# Altium schematic symbol library Bosch.SchLib: 2 symbols
Pins are listed as number, name and electrical type; pins without a type are passive.

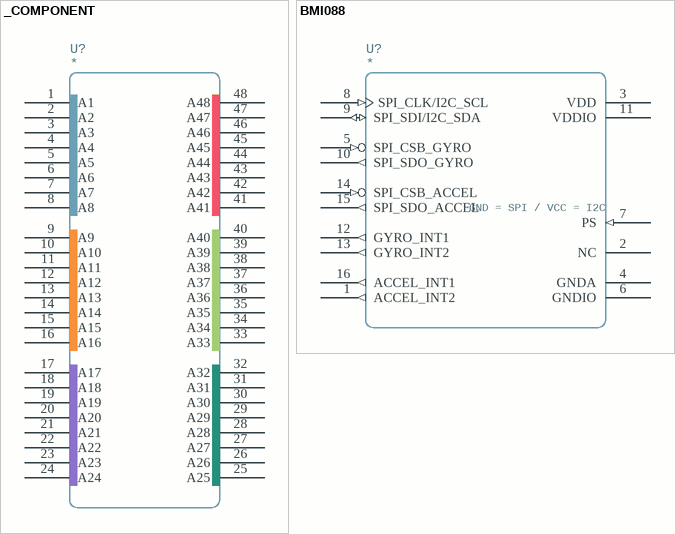
[diagram p0: symbols _COMPONENT to BMI088]

## _COMPONENT
designator U?
pins: 1 A1, 2 A2, 3 A3, 4 A4, 5 A5, 6 A6, 7 A7, 8 A8, 9 A9, 10 A10, 11 A11, 12 A12, 13 A13, 14 A14, 15 A15, 16 A16, 17 A17, 18 A18, 19 A19, 20 A20, 21 A21, 22 A22, 23 A23, 24 A24, 25 A25, 26 A26, 27 A27, 28 A28, 29 A29, 30 A30, 31 A31, 32 A32, 33 A33, 34 A34, 35 A35, 36 A36, 37 A37, 38 A38, 39 A39, 40 A40, 41 A41, 42 A42, 43 A43, 44 A44, 45 A45, 46 A46, 47 A47, 48 A48

## BMI088
designator U?
pins: 1 ACCEL_INT2 (out), 2 NC, 3 VDD, 4 GNDA, 5 SPI_CSB_GYRO (in), 6 GNDIO, 7 PS (in), 8 SPI_CLK/I2C_SCL (in), 9 SPI_SDI/I2C_SDA (io), 10 SPI_SDO_GYRO (out), 11 VDDIO, 12 GYRO_INT1 (out), 13 GYRO_INT2 (out), 14 SPI_CSB_ACCEL (in), 15 SPI_SDO_ACCEL (out), 16 ACCEL_INT1 (out)
text: GND = SPI / VCC = I2C